# Altium footprint library QFP.PcbLib: 10 footprints
Each footprint in its own frame and in the unit in brackets; x right, y up, seen from the top. Pads: shape width x height; smd on the part's side, far side on the other; paste and mask are expansions set on the pad; w line width, h text height; cw(c..) or ccw(c..) is an arc to the next point about the centre after c.
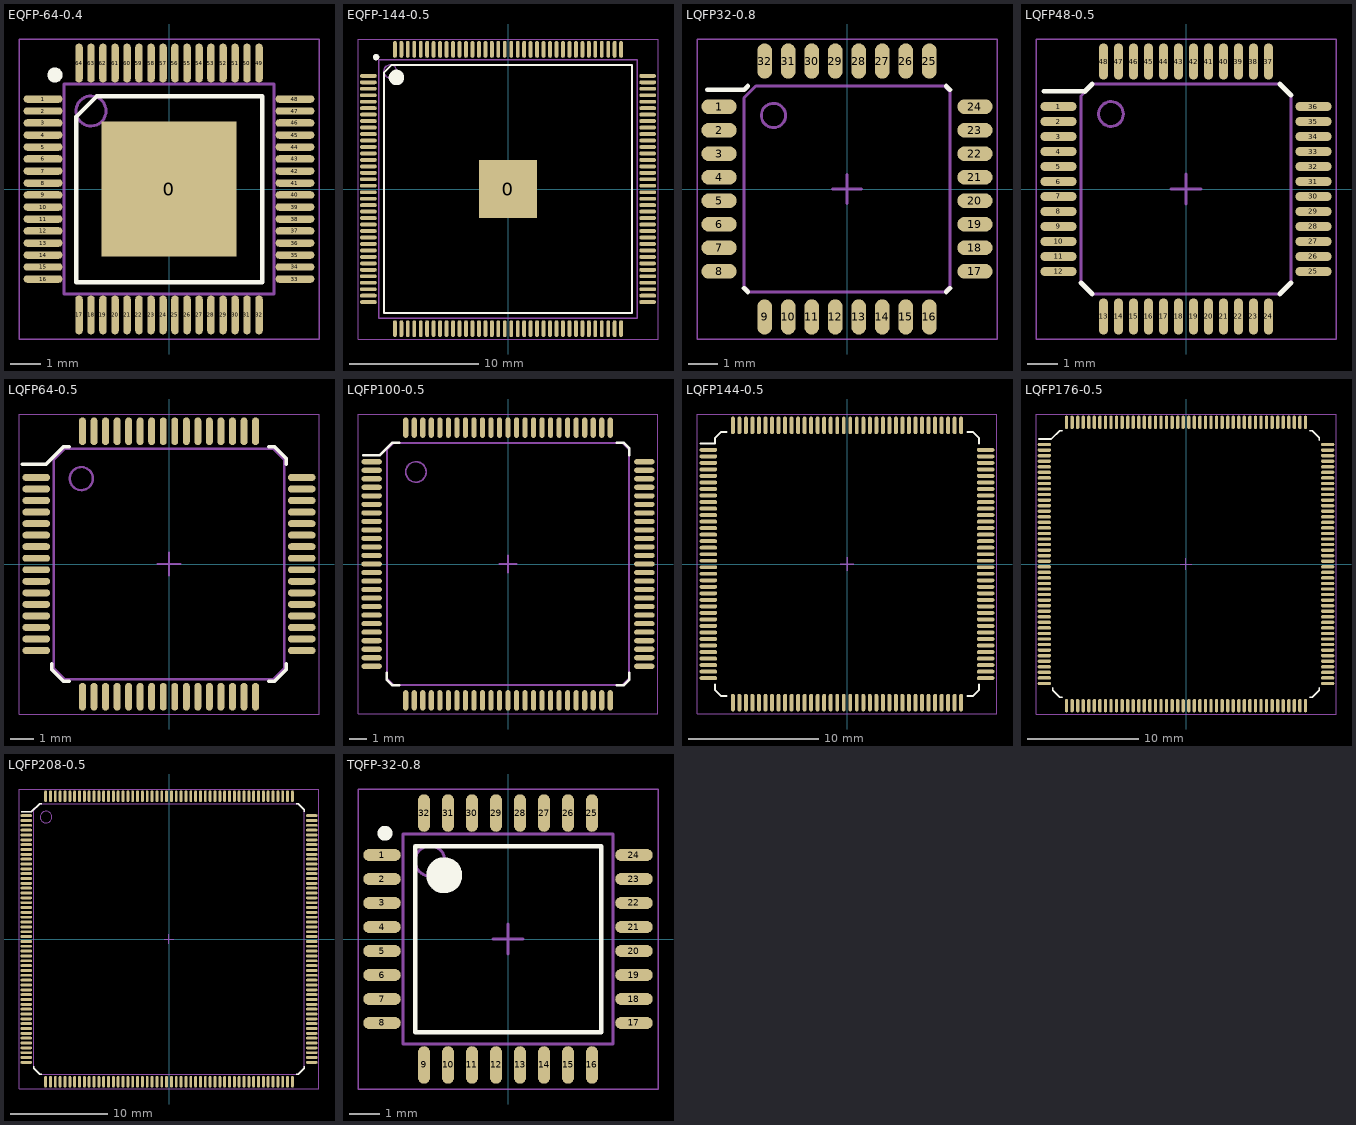
[diagram p0: the footprints below, top view; thin cyan lines are the x and y axes]

## EQFP-64-0.4 [mm] "64-Pin Plastic Enhanced Quad Flat (EQFP)"
height 1.2
pads (65):
  rect 4.5x4.5 smd: 0(0,0)
  oval 1.3x0.25 smd: 1(-4.2,3) 2(-4.2,2.6) 3(-4.2,2.2) 4(-4.2,1.8) 5(-4.2,1.4) 6(-4.2,1) 7(-4.2,0.6) 8(-4.2,0.2) 9(-4.2,-0.2) 10(-4.2,-0.6) 11(-4.2,-1) 12(-4.2,-1.4) 13(-4.2,-1.8) 14(-4.2,-2.2) 15(-4.2,-2.6) 16(-4.2,-3) 33(4.2,-3) 34(4.2,-2.6) 35(4.2,-2.2) 36(4.2,-1.8) 37(4.2,-1.4) 38(4.2,-1) 39(4.2,-0.6) 40(4.2,-0.2) 41(4.2,0.2) 42(4.2,0.6) 43(4.2,1) 44(4.2,1.4) 45(4.2,1.8) 46(4.2,2.2) 47(4.2,2.6) 48(4.2,3)
  oval 0.25x1.3 smd: 17(-3,-4.2) 18(-2.6,-4.2) 19(-2.2,-4.2) 20(-1.8,-4.2) 21(-1.4,-4.2) 22(-1,-4.2) 23(-0.6,-4.2) 24(-0.2,-4.2) 25(0.2,-4.2) 26(0.6,-4.2) 27(1,-4.2) 28(1.4,-4.2) 29(1.8,-4.2) 30(2.2,-4.2) 31(2.6,-4.2) 32(3,-4.2) 49(3,4.2) 50(2.6,4.2) 51(2.2,4.2) 52(1.8,4.2) 53(1.4,4.2) 54(1,4.2) 55(0.6,4.2) 56(0.2,4.2) 57(-0.2,4.2) 58(-0.6,4.2) 59(-1,4.2) 60(-1.4,4.2) 61(-1.8,4.2) 62(-2.2,4.2) 63(-2.6,4.2) 64(-3,4.2)
Top Overlay:
  circle w0.25: c-3.8,3.8 r0.125
  lines w0.15: -3.1,-3.1 3.1,-3.1 3.1,3.1 -2.4,3.1 -3.1,2.4 -3.1,-3.1
ASM Top:
  circle w0.1: c-2.6,2.6 r0.5
  lines w0.1: -3.5,-3.5 -3.5,3.5 3.5,3.5 3.5,-3.5 -3.5,-3.5
  text ".Designator" at -2.85,-0.3 h0.75
PNP Top:
  lines w0.05: -5,-5 -5,5 5,5 5,-5 -5,-5
  lines w0.1: -0.5,0 0.5,0 ; 0,-0.5 0,0.5
3D body "TSQFP40P900X900X120_HS-65L.step": height 1.2, standoff 0, extent -4.5,-4.5 4.5,4.5

## EQFP-144-0.5 [mm] "TSQFP, 144-Leads, Body 20,00x20,00mm, Pitch 0,50mm, Thermal Pad 4,50x4,50mm, IPC Medium Density"
height 1.6
pads (145):
  rect 4.5x4.5 smd: 0(0,0)
  oval 1.3x0.3 smd: 1(-10.8,8.75) 2(-10.8,8.25) 3(-10.8,7.75) 4(-10.8,7.25) 5(-10.8,6.75) 6(-10.8,6.25) 7(-10.8,5.75) 8(-10.8,5.25) 9(-10.8,4.75) 10(-10.8,4.25) 11(-10.8,3.75) 12(-10.8,3.25) 13(-10.8,2.75) 14(-10.8,2.25) 15(-10.8,1.75) 16(-10.8,1.25) 17(-10.8,0.75) 18(-10.8,0.25) 19(-10.8,-0.25) 20(-10.8,-0.75) 21(-10.8,-1.25) 22(-10.8,-1.75) 23(-10.8,-2.25) 24(-10.8,-2.75) 25(-10.8,-3.25) 26(-10.8,-3.75) 27(-10.8,-4.25) 28(-10.8,-4.75) 29(-10.8,-5.25) 30(-10.8,-5.75) 31(-10.8,-6.25) 32(-10.8,-6.75) 33(-10.8,-7.25) 34(-10.8,-7.75) 35(-10.8,-8.25) 36(-10.8,-8.75) 73(10.8,-8.75) 74(10.8,-8.25) 75(10.8,-7.75) 76(10.8,-7.25) 77(10.8,-6.75) 78(10.8,-6.25) 79(10.8,-5.75) 80(10.8,-5.25) 81(10.8,-4.75) 82(10.8,-4.25) 83(10.8,-3.75) 84(10.8,-3.25) 85(10.8,-2.75) 86(10.8,-2.25) 87(10.8,-1.75) 88(10.8,-1.25) 89(10.8,-0.75) 90(10.8,-0.25) 91(10.8,0.25) 92(10.8,0.75) 93(10.8,1.25) 94(10.8,1.75) 95(10.8,2.25) 96(10.8,2.75) 97(10.8,3.25) 98(10.8,3.75) 99(10.8,4.25) 100(10.8,4.75) 101(10.8,5.25) 102(10.8,5.75) 103(10.8,6.25) 104(10.8,6.75) 105(10.8,7.25) 106(10.8,7.75) 107(10.8,8.25) 108(10.8,8.75)
  oval 0.3x1.3 smd: 37(-8.75,-10.8) 38(-8.25,-10.8) 39(-7.75,-10.8) 40(-7.25,-10.8) 41(-6.75,-10.8) 42(-6.25,-10.8) 43(-5.75,-10.8) 44(-5.25,-10.8) 45(-4.75,-10.8) 46(-4.25,-10.8) 47(-3.75,-10.8) 48(-3.25,-10.8) 49(-2.75,-10.8) 50(-2.25,-10.8) 51(-1.75,-10.8) 52(-1.25,-10.8) 53(-0.75,-10.8) 54(-0.25,-10.8) 55(0.25,-10.8) 56(0.75,-10.8) 57(1.25,-10.8) 58(1.75,-10.8) 59(2.25,-10.8) 60(2.75,-10.8) 61(3.25,-10.8) 62(3.75,-10.8) 63(4.25,-10.8) 64(4.75,-10.8) 65(5.25,-10.8) 66(5.75,-10.8) 67(6.25,-10.8) 68(6.75,-10.8) 69(7.25,-10.8) 70(7.75,-10.8) 71(8.25,-10.8) 72(8.75,-10.8) 109(8.75,10.8) 110(8.25,10.8) 111(7.75,10.8) 112(7.25,10.8) 113(6.75,10.8) 114(6.25,10.8) 115(5.75,10.8) 116(5.25,10.8) 117(4.75,10.8) 118(4.25,10.8) 119(3.75,10.8) 120(3.25,10.8) 121(2.75,10.8) 122(2.25,10.8) 123(1.75,10.8) 124(1.25,10.8) 125(0.75,10.8) 126(0.25,10.8) 127(-0.25,10.8) 128(-0.75,10.8) 129(-1.25,10.8) 130(-1.75,10.8) 131(-2.25,10.8) 132(-2.75,10.8) 133(-3.25,10.8) 134(-3.75,10.8) 135(-4.25,10.8) 136(-4.75,10.8) 137(-5.25,10.8) 138(-5.75,10.8) 139(-6.25,10.8) 140(-6.75,10.8) 141(-7.25,10.8) 142(-7.75,10.8) 143(-8.25,10.8) 144(-8.75,10.8)
Top Overlay:
  circle w0.6: c-8.625,8.625 r0.3
  circle w0.25: c-10.2,10.2 r0.125
  lines w0.15: -9.6,-9.6 9.6,-9.6 9.6,9.6 -9,9.6 -9.6,9 -9.6,-9.6
ASM Top:
  circle w0.1: c-9.1,9.1 r0.5
  lines w0.1: -10,-10 10,-10 10,10 -10,10 -10,-10
  text ".Designator" at -6.55,-0.2 h0.75
PNP Top:
  lines w0.05: -11.6,-11.6 11.6,-11.6 11.6,11.6 -11.6,11.6 -11.6,-11.6
  lines w0.1: -0.5,0 0.5,0 ; 0,-0.5 0,0.5
3D body "TSQFP50P2200X2200X160_HS-145N.step": height 1.6, standoff 0, extent -11,-11 11,11

## LQFP32-0.8 [mm]
pads (32):
  oval 1.2x0.5 smd: 1(-4.35,2.8) 2(-4.35,2) 3(-4.35,1.2) 4(-4.35,0.4) 5(-4.35,-0.4) 6(-4.35,-1.2) 7(-4.35,-2) 8(-4.35,-2.8) 17(4.35,-2.8) 18(4.35,-2) 19(4.35,-1.2) 20(4.35,-0.4) 21(4.35,0.4) 22(4.35,1.2) 23(4.35,2) 24(4.35,2.8)
  oval 0.5x1.2 smd: 9(-2.8,-4.35) 10(-2,-4.35) 11(-1.2,-4.35) 12(-0.4,-4.35) 13(0.4,-4.35) 14(1.2,-4.35) 15(2,-4.35) 16(2.8,-4.35) 25(2.8,4.35) 26(2,4.35) 27(1.2,4.35) 28(0.4,4.35) 29(-0.4,4.35) 30(-1.2,4.35) 31(-2,4.35) 32(-2.8,4.35)
Top Overlay:
  lines w0.15: -4.75,3.375 -3.5,3.375
  lines w0.16: -3.5,-3.375 -3.375,-3.5 ; -3.5,3.375 -3.375,3.5 ; 3.375,-3.5 3.5,-3.375 ; 3.375,3.5 3.5,3.375
ASM Top:
  circle w0.1: c-2.5,2.5 r0.412
  lines w0.1: -3.5,-3.3 -3.5,3.1 -3.1,3.5 3.3,3.5 3.5,3.3 3.5,-3.3 3.3,-3.5 -3.3,-3.5 -3.5,-3.3
  text ".Designator" at -2.15,-0.2 h0.75
PNP Top:
  lines w0.05: -5.1,-5.1 -5.1,5.1 5.1,5.1 5.1,-5.1 -5.1,-5.1
  lines w0.1: -0.5,0 0.5,0 ; 0,-0.5 0,0.5
3D body "LQFP-32-0.8.STEP": height 1.62, standoff -0.01, extent -4.572,-4.572 4.572,4.572

## LQFP48-0.5 [mm]
pads (48):
  oval 1.2x0.3 smd: 1(-4.25,2.75) 2(-4.25,2.25) 3(-4.25,1.75) 4(-4.25,1.25) 5(-4.25,0.75) 6(-4.25,0.25) 7(-4.25,-0.25) 8(-4.25,-0.75) 9(-4.25,-1.25) 10(-4.25,-1.75) 11(-4.25,-2.25) 12(-4.25,-2.75) 25(4.25,-2.75) 26(4.25,-2.25) 27(4.25,-1.75) 28(4.25,-1.25) 29(4.25,-0.75) 30(4.25,-0.25) 31(4.25,0.25) 32(4.25,0.75) 33(4.25,1.25) 34(4.25,1.75) 35(4.25,2.25) 36(4.25,2.75)
  oval 0.3x1.2 smd: 13(-2.75,-4.25) 14(-2.25,-4.25) 15(-1.75,-4.25) 16(-1.25,-4.25) 17(-0.75,-4.25) 18(-0.25,-4.25) 19(0.25,-4.25) 20(0.75,-4.25) 21(1.25,-4.25) 22(1.75,-4.25) 23(2.25,-4.25) 24(2.75,-4.25) 37(2.75,4.25) 38(2.25,4.25) 39(1.75,4.25) 40(1.25,4.25) 41(0.75,4.25) 42(0.25,4.25) 43(-0.25,4.25) 44(-0.75,4.25) 45(-1.25,4.25) 46(-1.75,4.25) 47(-2.25,4.25) 48(-2.75,4.25)
Top Overlay:
  lines w0.15: -4.75,3.25 -3.375,3.25
  lines w0.16: -3.5,-3.125 -3.125,-3.5 ; -3.375,3.25 -3.125,3.5 ; 3.125,-3.5 3.5,-3.125 ; 3.125,3.5 3.5,3.125
ASM Top:
  circle w0.1: c-2.5,2.5 r0.412
  lines w0.1: -3.5,-3.1 -3.1,-3.5 3.1,-3.5 3.5,-3.1 3.5,3.1 3.1,3.5 -3.1,3.5 -3.5,3.1 -3.5,-3.1
  text ".Designator" at -3.65,0.1 h0.75
PNP Top:
  lines w0.05: -5,-5 -5,5 5,5 5,-5 -5,-5
  lines w0.1: -0.5,0 0.5,0 ; 0,-0.5 0,0.5
3D body "LQFP-48.step": height 1.5, standoff 0, extent -4.5,-4.5 4.5,4.5

## LQFP64-0.5 [mm]
pads (64):
  oval 1.2x0.3 smd: 1(-5.75,3.75) 2(-5.75,3.25) 3(-5.75,2.75) 4(-5.75,2.25) 5(-5.75,1.75) 6(-5.75,1.25) 7(-5.75,0.75) 8(-5.75,0.25) 9(-5.75,-0.25) 10(-5.75,-0.75) 11(-5.75,-1.25) 12(-5.75,-1.75) 13(-5.75,-2.25) 14(-5.75,-2.75) 15(-5.75,-3.25) 16(-5.75,-3.75) 33(5.75,-3.75) 34(5.75,-3.25) 35(5.75,-2.75) 36(5.75,-2.25) 37(5.75,-1.75) 38(5.75,-1.25) 39(5.75,-0.75) 40(5.75,-0.25) 41(5.75,0.25) 42(5.75,0.75) 43(5.75,1.25) 44(5.75,1.75) 45(5.75,2.25) 46(5.75,2.75) 47(5.75,3.25) 48(5.75,3.75)
  oval 0.3x1.2 smd: 17(-3.75,-5.75) 18(-3.25,-5.75) 19(-2.75,-5.75) 20(-2.25,-5.75) 21(-1.75,-5.75) 22(-1.25,-5.75) 23(-0.75,-5.75) 24(-0.25,-5.75) 25(0.25,-5.75) 26(0.75,-5.75) 27(1.25,-5.75) 28(1.75,-5.75) 29(2.25,-5.75) 30(2.75,-5.75) 31(3.25,-5.75) 32(3.75,-5.75) 49(3.75,5.75) 50(3.25,5.75) 51(2.75,5.75) 52(2.25,5.75) 53(1.75,5.75) 54(1.25,5.75) 55(0.75,5.75) 56(0.25,5.75) 57(-0.25,5.75) 58(-0.75,5.75) 59(-1.25,5.75) 60(-1.75,5.75) 61(-2.25,5.75) 62(-2.75,5.75) 63(-3.25,5.75) 64(-3.75,5.75)
Top Overlay:
  lines w0.16: -6.35,4.318 -5.334,4.318 -4.572,5.08 -4.318,5.08 ; -5.08,-4.318 -5.08,-4.572 -4.572,-5.08 -4.318,-5.08 ; 4.318,-5.08 4.572,-5.08 5.08,-4.572 5.08,-4.318 ; 4.318,5.08 4.572,5.08 5.08,4.572 5.08,4.318
ASM Top:
  circle w0.1: c-3.8,3.7 r0.5
  lines w0.1: -5,-4.5 -4.5,-5 4.5,-5 5,-4.5 5,4.5 4.5,5 -4.5,5 -5,4.5 -5,-4.5
  text ".Designator" at -3.45,-0.3 h0.75
PNP Top:
  lines w0.05: -6.5,-6.5 6.5,-6.5 6.5,6.5 -6.5,6.5 -6.5,-6.5
  lines w0.1: -0.5,0 0.5,0 ; 0,-0.5 0,0.5
3D body "LQFP-64.STEP": height 1.6, standoff 0, extent -6,-6 6,6

## LQFP100-0.5 [mm]
pads (100):
  oval 1.2x0.3 smd: 1(-8,6) 2(-8,5.5) 3(-8,5) 4(-8,4.5) 5(-8,4) 6(-8,3.5) 7(-8,3) 8(-8,2.5) 9(-8,2) 10(-8,1.5) 11(-8,1) 12(-8,0.5) 13(-8,0) 14(-8,-0.5) 15(-8,-1) 16(-8,-1.5) 17(-8,-2) 18(-8,-2.5) 19(-8,-3) 20(-8,-3.5) 21(-8,-4) 22(-8,-4.5) 23(-8,-5) 24(-8,-5.5) 25(-8,-6) 51(8,-6) 52(8,-5.5) 53(8,-5) 54(8,-4.5) 55(8,-4) 56(8,-3.5) 57(8,-3) 58(8,-2.5) 59(8,-2) 60(8,-1.5) 61(8,-1) 62(8,-0.5) 63(8,0) 64(8,0.5) 65(8,1) 66(8,1.5) 67(8,2) 68(8,2.5) 69(8,3) 70(8,3.5) 71(8,4) 72(8,4.5) 73(8,5) 74(8,5.5) 75(8,6)
  oval 0.3x1.2 smd: 26(-6,-8) 27(-5.5,-8) 28(-5,-8) 29(-4.5,-8) 30(-4,-8) 31(-3.5,-8) 32(-3,-8) 33(-2.5,-8) 34(-2,-8) 35(-1.5,-8) 36(-1,-8) 37(-0.5,-8) 38(0,-8) 39(0.5,-8) 40(1,-8) 41(1.5,-8) 42(2,-8) 43(2.5,-8) 44(3,-8) 45(3.5,-8) 46(4,-8) 47(4.5,-8) 48(5,-8) 49(5.5,-8) 50(6,-8) 76(6,8) 77(5.5,8) 78(5,8) 79(4.5,8) 80(4,8) 81(3.5,8) 82(3,8) 83(2.5,8) 84(2,8) 85(1.5,8) 86(1,8) 87(0.5,8) 88(0,8) 89(-0.5,8) 90(-1,8) 91(-1.5,8) 92(-2,8) 93(-2.5,8) 94(-3,8) 95(-3.5,8) 96(-4,8) 97(-4.5,8) 98(-5,8) 99(-5.5,8) 100(-6,8)
Top Overlay:
  lines w0.15: -8.5,6.375 -7.527,6.375 -6.777,7.125 -6.375,7.125 ; -7.125,-6.375 -7.125,-6.777 -6.777,-7.125 -6.375,-7.125 ; 6.375,-7.125 6.777,-7.125 7.125,-6.777 7.125,-6.375 ; 6.375,7.125 6.777,7.125 7.125,6.777 7.125,6.375
ASM Top:
  circle w0.1: c-5.4,5.4 r0.6
  lines w0.1: -7.1,-6.7 -6.7,-7.1 6.7,-7.1 7.1,-6.7 7.1,6.7 6.7,7.1 -6.7,7.1 -7.1,6.7 -7.1,-6.7
  text ".Designator" at -4.35,-0.1 h0.75
PNP Top:
  lines w0.05: -8.8,-8.8 -8.8,8.8 8.8,8.8 8.8,-8.8 -8.8,-8.8
  lines w0.1: -0.5,0 0.5,0 ; 0,-0.5 0,0.5
3D body "LQFP-100.step": height 1.6, standoff 0, extent -8,-8 8,8

## LQFP144-0.5 [mm]
pads (144):
  oval 1.35x0.3 smd: 1(-10.625,8.75) 2(-10.625,8.25) 3(-10.625,7.75) 4(-10.625,7.25) 5(-10.625,6.75) 6(-10.625,6.25) 7(-10.625,5.75) 8(-10.625,5.25) 9(-10.625,4.75) 10(-10.625,4.25) 11(-10.625,3.75) 12(-10.625,3.25) 13(-10.625,2.75) 14(-10.625,2.25) 15(-10.625,1.75) 16(-10.625,1.25) 17(-10.625,0.75) 18(-10.625,0.25) 19(-10.625,-0.25) 20(-10.625,-0.75) 21(-10.625,-1.25) 22(-10.625,-1.75) 23(-10.625,-2.25) 24(-10.625,-2.75) 25(-10.625,-3.25) 26(-10.625,-3.75) 27(-10.625,-4.25) 28(-10.625,-4.75) 29(-10.625,-5.25) 30(-10.625,-5.75) 31(-10.625,-6.25) 32(-10.625,-6.75) 33(-10.625,-7.25) 34(-10.625,-7.75) 35(-10.625,-8.25) 36(-10.625,-8.75) 73(10.625,-8.75) 74(10.625,-8.25) 75(10.625,-7.75) 76(10.625,-7.25) 77(10.625,-6.75) 78(10.625,-6.25) 79(10.625,-5.75) 80(10.625,-5.25) 81(10.625,-4.75) 82(10.625,-4.25) 83(10.625,-3.75) 84(10.625,-3.25) 85(10.625,-2.75) 86(10.625,-2.25) 87(10.625,-1.75) 88(10.625,-1.25) 89(10.625,-0.75) 90(10.625,-0.25) 91(10.625,0.25) 92(10.625,0.75) 93(10.625,1.25) 94(10.625,1.75) 95(10.625,2.25) 96(10.625,2.75) 97(10.625,3.25) 98(10.625,3.75) 99(10.625,4.25) 100(10.625,4.75) 101(10.625,5.25) 102(10.625,5.75) 103(10.625,6.25) 104(10.625,6.75) 105(10.625,7.25) 106(10.625,7.75) 107(10.625,8.25) 108(10.625,8.75)
  oval 0.3x1.35 smd: 37(-8.75,-10.625) 38(-8.25,-10.625) 39(-7.75,-10.625) 40(-7.25,-10.625) 41(-6.75,-10.625) 42(-6.25,-10.625) 43(-5.75,-10.625) 44(-5.25,-10.625) 45(-4.75,-10.625) 46(-4.25,-10.625) 47(-3.75,-10.625) 48(-3.25,-10.625) 49(-2.75,-10.625) 50(-2.25,-10.625) 51(-1.75,-10.625) 52(-1.25,-10.625) 53(-0.75,-10.625) 54(-0.25,-10.625) 55(0.25,-10.625) 56(0.75,-10.625) 57(1.25,-10.625) 58(1.75,-10.625) 59(2.25,-10.625) 60(2.75,-10.625) 61(3.25,-10.625) 62(3.75,-10.625) 63(4.25,-10.625) 64(4.75,-10.625) 65(5.25,-10.625) 66(5.75,-10.625) 67(6.25,-10.625) 68(6.75,-10.625) 69(7.25,-10.625) 70(7.75,-10.625) 71(8.25,-10.625) 72(8.75,-10.625) 109(8.75,10.625) 110(8.25,10.625) 111(7.75,10.625) 112(7.25,10.625) 113(6.75,10.625) 114(6.25,10.625) 115(5.75,10.625) 116(5.25,10.625) 117(4.75,10.625) 118(4.25,10.625) 119(3.75,10.625) 120(3.25,10.625) 121(2.75,10.625) 122(2.25,10.625) 123(1.75,10.625) 124(1.25,10.625) 125(0.75,10.625) 126(0.25,10.625) 127(-0.25,10.625) 128(-0.75,10.625) 129(-1.25,10.625) 130(-1.75,10.625) 131(-2.25,10.625) 132(-2.75,10.625) 133(-3.25,10.625) 134(-3.75,10.625) 135(-4.25,10.625) 136(-4.75,10.625) 137(-5.25,10.625) 138(-5.75,10.625) 139(-6.25,10.625) 140(-6.75,10.625) 141(-7.25,10.625) 142(-7.75,10.625) 143(-8.25,10.625) 144(-8.75,10.625)
Top Overlay:
  lines w0.15: -11.25,9.25 -10.125,9.25 -10.125,9.625 -9.625,10.125 -9.25,10.125 ; -10.125,-9.25 -10.125,-9.625 -9.625,-10.125 -9.25,-10.125 ; 9.25,-10.125 9.625,-10.125 10.125,-9.625 10.125,-9.25 ; 9.25,10.125 9.625,10.125 10.125,9.625 10.125,9.25
ASM Top:
  text ".Designator" at -4.45,-0.2 h0.75
PNP Top:
  lines w0.05: -11.5,-11.5 11.5,-11.5 11.5,11.5 -11.5,11.5 -11.5,-11.5
  lines w0.1: -0.5,0 0.5,0 ; 0,-0.5 0,0.5
3D body "LQFP-144.step": height 1.58, standoff -0.02, extent -11,-11 11,11

## LQFP176-0.5 [mm]
pads (176):
  oval 1.2x0.3 smd: 1(-12.75,10.75) 2(-12.75,10.25) 3(-12.75,9.75) 4(-12.75,9.25) 5(-12.75,8.75) 6(-12.75,8.25) 7(-12.75,7.75) 8(-12.75,7.25) 9(-12.75,6.75) 10(-12.75,6.25) 11(-12.75,5.75) 12(-12.75,5.25) 13(-12.75,4.75) 14(-12.75,4.25) 15(-12.75,3.75) 16(-12.75,3.25) 17(-12.75,2.75) 18(-12.75,2.25) 19(-12.75,1.75) 20(-12.75,1.25) 21(-12.75,0.75) 22(-12.75,0.25) 23(-12.75,-0.25) 24(-12.75,-0.75) 25(-12.75,-1.25) 26(-12.75,-1.75) 27(-12.75,-2.25) 28(-12.75,-2.75) 29(-12.75,-3.25) 30(-12.75,-3.75) 31(-12.75,-4.25) 32(-12.75,-4.75) 33(-12.75,-5.25) 34(-12.75,-5.75) 35(-12.75,-6.25) 36(-12.75,-6.75) 37(-12.75,-7.25) 38(-12.75,-7.75) 39(-12.75,-8.25) 40(-12.75,-8.75) 41(-12.75,-9.25) 42(-12.75,-9.75) 43(-12.75,-10.25) 44(-12.75,-10.75) 89(12.75,-10.75) 90(12.75,-10.25) 91(12.75,-9.75) 92(12.75,-9.25) 93(12.75,-8.75) 94(12.75,-8.25) 95(12.75,-7.75) 96(12.75,-7.25) 97(12.75,-6.75) 98(12.75,-6.25) 99(12.75,-5.75) 100(12.75,-5.25) 101(12.75,-4.75) 102(12.75,-4.25) 103(12.75,-3.75) 104(12.75,-3.25) 105(12.75,-2.75) 106(12.75,-2.25) 107(12.75,-1.75) 108(12.75,-1.25) 109(12.75,-0.75) 110(12.75,-0.25) 111(12.75,0.25) 112(12.75,0.75) 113(12.75,1.25) 114(12.75,1.75) 115(12.75,2.25) 116(12.75,2.75) 117(12.75,3.25) 118(12.75,3.75) 119(12.75,4.25) 120(12.75,4.75) 121(12.75,5.25) 122(12.75,5.75) 123(12.75,6.25) 124(12.75,6.75) 125(12.75,7.25) 126(12.75,7.75) 127(12.75,8.25) 128(12.75,8.75) 129(12.75,9.25) 130(12.75,9.75) 131(12.75,10.25) 132(12.75,10.75)
  oval 0.3x1.2 smd: 45(-10.75,-12.75) 46(-10.25,-12.75) 47(-9.75,-12.75) 48(-9.25,-12.75) 49(-8.75,-12.75) 50(-8.25,-12.75) 51(-7.75,-12.75) 52(-7.25,-12.75) 53(-6.75,-12.75) 54(-6.25,-12.75) 55(-5.75,-12.75) 56(-5.25,-12.75) 57(-4.75,-12.75) 58(-4.25,-12.75) 59(-3.75,-12.75) 60(-3.25,-12.75) 61(-2.75,-12.75) 62(-2.25,-12.75) 63(-1.75,-12.75) 64(-1.25,-12.75) 65(-0.75,-12.75) 66(-0.25,-12.75) 67(0.25,-12.75) 68(0.75,-12.75) 69(1.25,-12.75) 70(1.75,-12.75) 71(2.25,-12.75) 72(2.75,-12.75) 73(3.25,-12.75) 74(3.75,-12.75) 75(4.25,-12.75) 76(4.75,-12.75) 77(5.25,-12.75) 78(5.75,-12.75) 79(6.25,-12.75) 80(6.75,-12.75) 81(7.25,-12.75) 82(7.75,-12.75) 83(8.25,-12.75) 84(8.75,-12.75) 85(9.25,-12.75) 86(9.75,-12.75) 87(10.25,-12.75) 88(10.75,-12.75) 133(10.75,12.75) 134(10.25,12.75) 135(9.75,12.75) 136(9.25,12.75) 137(8.75,12.75) 138(8.25,12.75) 139(7.75,12.75) 140(7.25,12.75) 141(6.75,12.75) 142(6.25,12.75) 143(5.75,12.75) 144(5.25,12.75) 145(4.75,12.75) 146(4.25,12.75) 147(3.75,12.75) 148(3.25,12.75) 149(2.75,12.75) 150(2.25,12.75) 151(1.75,12.75) 152(1.25,12.75) 153(0.75,12.75) 154(0.25,12.75) 155(-0.25,12.75) 156(-0.75,12.75) 157(-1.25,12.75) 158(-1.75,12.75) 159(-2.25,12.75) 160(-2.75,12.75) 161(-3.25,12.75) 162(-3.75,12.75) 163(-4.25,12.75) 164(-4.75,12.75) 165(-5.25,12.75) 166(-5.75,12.75) 167(-6.25,12.75) 168(-6.75,12.75) 169(-7.25,12.75) 170(-7.75,12.75) 171(-8.25,12.75) 172(-8.75,12.75) 173(-9.25,12.75) 174(-9.75,12.75) 175(-10.25,12.75) 176(-10.75,12.75)
Top Overlay:
  lines w0.15: -13.25,11.25 -12.125,11.25 -11.375,12 -11.125,12 ; -12,-11.125 -12,-11.375 -11.375,-12 -11.125,-12 ; 11.125,-12 11.375,-12 12,-11.375 12,-11.125 ; 11.125,12 11.375,12 12,11.375 12,11.125
ASM Top:
  text ".Designator" at -4.05,-0.7 h0.75
PNP Top:
  lines w0.05: -13.5,-13.5 13.5,-13.5 13.5,13.5 -13.5,13.5 -13.5,-13.5
  lines w0.1: -0.5,0 0.5,0 ; 0,-0.5 0,0.5
3D body "LQFP-176.step": height 1.55, standoff -0.02, extent -12.886,-12.886 12.886,12.886

## LQFP208-0.5 [mm]
pads (208):
  oval 1.2x0.3 smd: 1(-14.75,12.75) 2(-14.75,12.25) 3(-14.75,11.75) 4(-14.75,11.25) 5(-14.75,10.75) 6(-14.75,10.25) 7(-14.75,9.75) 8(-14.75,9.25) 9(-14.75,8.75) 10(-14.75,8.25) 11(-14.75,7.75) 12(-14.75,7.25) 13(-14.75,6.75) 14(-14.75,6.25) 15(-14.75,5.75) 16(-14.75,5.25) 17(-14.75,4.75) 18(-14.75,4.25) 19(-14.75,3.75) 20(-14.75,3.25) 21(-14.75,2.75) 22(-14.75,2.25) 23(-14.75,1.75) 24(-14.75,1.25) 25(-14.75,0.75) 26(-14.75,0.25) 27(-14.75,-0.25) 28(-14.75,-0.75) 29(-14.75,-1.25) 30(-14.75,-1.75) 31(-14.75,-2.25) 32(-14.75,-2.75) 33(-14.75,-3.25) 34(-14.75,-3.75) 35(-14.75,-4.25) 36(-14.75,-4.75) 37(-14.75,-5.25) 38(-14.75,-5.75) 39(-14.75,-6.25) 40(-14.75,-6.75) 41(-14.75,-7.25) 42(-14.75,-7.75) 43(-14.75,-8.25) 44(-14.75,-8.75) 45(-14.75,-9.25) 46(-14.75,-9.75) 47(-14.75,-10.25) 48(-14.75,-10.75) 49(-14.75,-11.25) 50(-14.75,-11.75) 51(-14.75,-12.25) 52(-14.75,-12.75) 105(14.75,-12.75) 106(14.75,-12.25) 107(14.75,-11.75) 108(14.75,-11.25) 109(14.75,-10.75) 110(14.75,-10.25) 111(14.75,-9.75) 112(14.75,-9.25) 113(14.75,-8.75) 114(14.75,-8.25) 115(14.75,-7.75) 116(14.75,-7.25) 117(14.75,-6.75) 118(14.75,-6.25) 119(14.75,-5.75) 120(14.75,-5.25) 121(14.75,-4.75) 122(14.75,-4.25) 123(14.75,-3.75) 124(14.75,-3.25) 125(14.75,-2.75) 126(14.75,-2.25) 127(14.75,-1.75) 128(14.75,-1.25) 129(14.75,-0.75) 130(14.75,-0.25) 131(14.75,0.25) 132(14.75,0.75) 133(14.75,1.25) 134(14.75,1.75) 135(14.75,2.25) 136(14.75,2.75) 137(14.75,3.25) 138(14.75,3.75) 139(14.75,4.25) 140(14.75,4.75) 141(14.75,5.25) 142(14.75,5.75) 143(14.75,6.25) 144(14.75,6.75) 145(14.75,7.25) 146(14.75,7.75) 147(14.75,8.25) 148(14.75,8.75) 149(14.75,9.25) 150(14.75,9.75) 151(14.75,10.25) 152(14.75,10.75) 153(14.75,11.25) 154(14.75,11.75) 155(14.75,12.25) 156(14.75,12.75)
  oval 0.3x1.2 smd: 53(-12.75,-14.75) 54(-12.25,-14.75) 55(-11.75,-14.75) 56(-11.25,-14.75) 57(-10.75,-14.75) 58(-10.25,-14.75) 59(-9.75,-14.75) 60(-9.25,-14.75) 61(-8.75,-14.75) 62(-8.25,-14.75) 63(-7.75,-14.75) 64(-7.25,-14.75) 65(-6.75,-14.75) 66(-6.25,-14.75) 67(-5.75,-14.75) 68(-5.25,-14.75) 69(-4.75,-14.75) 70(-4.25,-14.75) 71(-3.75,-14.75) 72(-3.25,-14.75) 73(-2.75,-14.75) 74(-2.25,-14.75) 75(-1.75,-14.75) 76(-1.25,-14.75) 77(-0.75,-14.75) 78(-0.25,-14.75) 79(0.25,-14.75) 80(0.75,-14.75) 81(1.25,-14.75) 82(1.75,-14.75) 83(2.25,-14.75) 84(2.75,-14.75) 85(3.25,-14.75) 86(3.75,-14.75) 87(4.25,-14.75) 88(4.75,-14.75) 89(5.25,-14.75) 90(5.75,-14.75) 91(6.25,-14.75) 92(6.75,-14.75) 93(7.25,-14.75) 94(7.75,-14.75) 95(8.25,-14.75) 96(8.75,-14.75) 97(9.25,-14.75) 98(9.75,-14.75) 99(10.25,-14.75) 100(10.75,-14.75) 101(11.25,-14.75) 102(11.75,-14.75) 103(12.25,-14.75) 104(12.75,-14.75) 157(12.75,14.75) 158(12.25,14.75) 159(11.75,14.75) 160(11.25,14.75) 161(10.75,14.75) 162(10.25,14.75) 163(9.75,14.75) 164(9.25,14.75) 165(8.75,14.75) 166(8.25,14.75) 167(7.75,14.75) 168(7.25,14.75) 169(6.75,14.75) 170(6.25,14.75) 171(5.75,14.75) 172(5.25,14.75) 173(4.75,14.75) 174(4.25,14.75) 175(3.75,14.75) 176(3.25,14.75) 177(2.75,14.75) 178(2.25,14.75) 179(1.75,14.75) 180(1.25,14.75) 181(0.75,14.75) 182(0.25,14.75) 183(-0.25,14.75) 184(-0.75,14.75) 185(-1.25,14.75) 186(-1.75,14.75) 187(-2.25,14.75) 188(-2.75,14.75) 189(-3.25,14.75) 190(-3.75,14.75) 191(-4.25,14.75) 192(-4.75,14.75) 193(-5.25,14.75) 194(-5.75,14.75) 195(-6.25,14.75) 196(-6.75,14.75) 197(-7.25,14.75) 198(-7.75,14.75) 199(-8.25,14.75) 200(-8.75,14.75) 201(-9.25,14.75) 202(-9.75,14.75) 203(-10.25,14.75) 204(-10.75,14.75) 205(-11.25,14.75) 206(-11.75,14.75) 207(-12.25,14.75) 208(-12.75,14.75)
Top Overlay:
  lines w0.15: -15.25,13.125 -14.25,13.125 -13.375,14 -13.125,14 ; -14,-13.125 -14,-13.375 -13.375,-14 -13.125,-14 ; 13.125,-14 13.375,-14 14,-13.375 14,-13.125 ; 13.125,14 13.375,14 14,13.375 14,13.125
ASM Top:
  circle w0.1: c-12.7,12.6 r0.6
  lines w0.1: -14,-13.3 -14,13.3 -13.3,14 13.3,14 14,13.3 14,-13.3 13.3,-14 -13.3,-14 -14,-13.3
  text ".Designator" at -4.75,-2.4 h0.75
PNP Top:
  lines w0.05: -15.5,-15.5 15.5,-15.5 15.5,15.5 -15.5,15.5 -15.5,-15.5
  lines w0.1: -0.5,0 0.5,0 ; 0,-0.5 0,0.5
3D body: height 0.3, standoff 0, extent -12.875,-14.875 -12.625,-13.875
3D body: height 1.6, standoff 0.2, extent -14,-14 14,14
3D body: height 0.3, standoff 0, extent -12.375,-14.875 -12.125,-13.875
3D body: height 0.3, standoff 0, extent -11.375,-14.875 -11.125,-13.875
3D body: height 0.3, standoff 0, extent -11.875,-14.875 -11.625,-13.875
3D body: height 0.3, standoff 0, extent -9.875,-14.875 -9.625,-13.875
3D body: height 0.3, standoff 0, extent -9.375,-14.875 -9.125,-13.875
3D body: height 0.3, standoff 0, extent -10.375,-14.875 -10.125,-13.875
3D body: height 0.3, standoff 0, extent -10.875,-14.875 -10.625,-13.875
3D body: height 0.3, standoff 0, extent -6.875,-14.875 -6.625,-13.875
3D body: height 0.3, standoff 0, extent -6.375,-14.875 -6.125,-13.875
3D body: height 0.3, standoff 0, extent -5.375,-14.875 -5.125,-13.875
3D body: height 0.3, standoff 0, extent -5.875,-14.875 -5.625,-13.875
3D body: height 0.3, standoff 0, extent -7.875,-14.875 -7.625,-13.875
3D body: height 0.3, standoff 0, extent -7.375,-14.875 -7.125,-13.875
3D body: height 0.3, standoff 0, extent -8.375,-14.875 -8.125,-13.875
3D body: height 0.3, standoff 0, extent -8.875,-14.875 -8.625,-13.875
3D body: height 0.3, standoff 0, extent -0.875,-14.875 -0.625,-13.875
3D body: height 0.3, standoff 0, extent -0.375,-14.875 -0.125,-13.875
3D body: height 0.3, standoff 0, extent 0.625,-14.875 0.875,-13.875
3D body: height 0.3, standoff 0, extent 0.125,-14.875 0.375,-13.875
3D body: height 0.3, standoff 0, extent 2.125,-14.875 2.375,-13.875
3D body: height 0.3, standoff 0, extent 2.625,-14.875 2.875,-13.875
3D body: height 0.3, standoff 0, extent 1.625,-14.875 1.875,-13.875
3D body: height 0.3, standoff 0, extent 1.125,-14.875 1.375,-13.875
3D body: height 0.3, standoff 0, extent -2.875,-14.875 -2.625,-13.875
3D body: height 0.3, standoff 0, extent -2.375,-14.875 -2.125,-13.875
3D body: height 0.3, standoff 0, extent -1.375,-14.875 -1.125,-13.875
3D body: height 0.3, standoff 0, extent -1.875,-14.875 -1.625,-13.875
3D body: height 0.3, standoff 0, extent -3.875,-14.875 -3.625,-13.875
3D body: height 0.3, standoff 0, extent -3.375,-14.875 -3.125,-13.875
3D body: height 0.3, standoff 0, extent -4.375,-14.875 -4.125,-13.875
3D body: height 0.3, standoff 0, extent -4.875,-14.875 -4.625,-13.875
3D body: height 0.3, standoff 0, extent 7.125,-14.875 7.375,-13.875
3D body: height 0.3, standoff 0, extent 7.625,-14.875 7.875,-13.875
3D body: height 0.3, standoff 0, extent 8.625,-14.875 8.875,-13.875
3D body: height 0.3, standoff 0, extent 8.125,-14.875 8.375,-13.875
3D body: height 0.3, standoff 0, extent 10.125,-14.875 10.375,-13.875
3D body: height 0.3, standoff 0, extent 10.625,-14.875 10.875,-13.875
3D body: height 0.3, standoff 0, extent 9.625,-14.875 9.875,-13.875
3D body: height 0.3, standoff 0, extent 9.125,-14.875 9.375,-13.875
3D body: height 0.3, standoff 0, extent 5.125,-14.875 5.375,-13.875
3D body: height 0.3, standoff 0, extent 5.625,-14.875 5.875,-13.875
3D body: height 0.3, standoff 0, extent 6.625,-14.875 6.875,-13.875
3D body: height 0.3, standoff 0, extent 6.125,-14.875 6.375,-13.875
3D body: height 0.3, standoff 0, extent 4.125,-14.875 4.375,-13.875
3D body: height 0.3, standoff 0, extent 4.625,-14.875 4.875,-13.875
3D body: height 0.3, standoff 0, extent 3.625,-14.875 3.875,-13.875
3D body: height 0.3, standoff 0, extent 3.125,-14.875 3.375,-13.875
3D body: height 0.3, standoff 0, extent 12.125,-14.875 12.375,-13.875
3D body: height 0.3, standoff 0, extent 12.625,-14.875 12.875,-13.875
3D body: height 0.3, standoff 0, extent 11.625,-14.875 11.875,-13.875
3D body: height 0.3, standoff 0, extent 11.125,-14.875 11.375,-13.875
3D body: height 0.3, standoff 0, extent 13.875,11.125 14.875,11.375
3D body: height 0.3, standoff 0, extent 13.875,11.625 14.875,11.875
3D body: height 0.3, standoff 0, extent 13.875,12.625 14.875,12.875
3D body: height 0.3, standoff 0, extent 13.875,12.125 14.875,12.375
3D body: height 0.3, standoff 0, extent 13.875,3.125 14.875,3.375
3D body: height 0.3, standoff 0, extent 13.875,3.625 14.875,3.875
3D body: height 0.3, standoff 0, extent 13.875,4.625 14.875,4.875
3D body: height 0.3, standoff 0, extent 13.875,4.125 14.875,4.375
3D body: height 0.3, standoff 0, extent 13.875,6.125 14.875,6.375
3D body: height 0.3, standoff 0, extent 13.875,6.625 14.875,6.875
3D body: height 0.3, standoff 0, extent 13.875,5.625 14.875,5.875
3D body: height 0.3, standoff 0, extent 13.875,5.125 14.875,5.375
3D body: height 0.3, standoff 0, extent 13.875,9.125 14.875,9.375
3D body: height 0.3, standoff 0, extent 13.875,9.625 14.875,9.875
3D body: height 0.3, standoff 0, extent 13.875,10.625 14.875,10.875
3D body: height 0.3, standoff 0, extent 13.875,10.125 14.875,10.375
3D body: height 0.3, standoff 0, extent 13.875,8.125 14.875,8.375
3D body: height 0.3, standoff 0, extent 13.875,8.625 14.875,8.875
3D body: height 0.3, standoff 0, extent 13.875,7.625 14.875,7.875
3D body: height 0.3, standoff 0, extent 13.875,7.125 14.875,7.375
3D body: height 0.3, standoff 0, extent 13.875,-4.875 14.875,-4.625
3D body: height 0.3, standoff 0, extent 13.875,-4.375 14.875,-4.125
3D body: height 0.3, standoff 0, extent 13.875,-3.375 14.875,-3.125
3D body: height 0.3, standoff 0, extent 13.875,-3.875 14.875,-3.625
3D body: height 0.3, standoff 0, extent 13.875,-1.875 14.875,-1.625
3D body: height 0.3, standoff 0, extent 13.875,-1.375 14.875,-1.125
3D body: height 0.3, standoff 0, extent 13.875,-2.375 14.875,-2.125
3D body: height 0.3, standoff 0, extent 13.875,-2.875 14.875,-2.625
3D body: height 0.3, standoff 0, extent 13.875,1.125 14.875,1.375
3D body: height 0.3, standoff 0, extent 13.875,1.625 14.875,1.875
3D body: height 0.3, standoff 0, extent 13.875,2.625 14.875,2.875
3D body: height 0.3, standoff 0, extent 13.875,2.125 14.875,2.375
3D body: height 0.3, standoff 0, extent 13.875,0.125 14.875,0.375
3D body: height 0.3, standoff 0, extent 13.875,0.625 14.875,0.875
3D body: height 0.3, standoff 0, extent 13.875,-0.375 14.875,-0.125
3D body: height 0.3, standoff 0, extent 13.875,-0.875 14.875,-0.625
3D body: height 0.3, standoff 0, extent 13.875,-8.875 14.875,-8.625
3D body: height 0.3, standoff 0, extent 13.875,-8.375 14.875,-8.125
3D body: height 0.3, standoff 0, extent 13.875,-7.375 14.875,-7.125
3D body: height 0.3, standoff 0, extent 13.875,-7.875 14.875,-7.625
3D body: height 0.3, standoff 0, extent 13.875,-5.875 14.875,-5.625
3D body: height 0.3, standoff 0, extent 13.875,-5.375 14.875,-5.125
3D body: height 0.3, standoff 0, extent 13.875,-6.375 14.875,-6.125
3D body: height 0.3, standoff 0, extent 13.875,-6.875 14.875,-6.625
3D body: height 0.3, standoff 0, extent 13.875,-10.875 14.875,-10.625
3D body: height 0.3, standoff 0, extent 13.875,-10.375 14.875,-10.125
3D body: height 0.3, standoff 0, extent 13.875,-9.375 14.875,-9.125
3D body: height 0.3, standoff 0, extent 13.875,-9.875 14.875,-9.625
3D body: height 0.3, standoff 0, extent 13.875,-11.875 14.875,-11.625
3D body: height 0.3, standoff 0, extent 13.875,-11.375 14.875,-11.125
3D body: height 0.3, standoff 0, extent 13.875,-12.375 14.875,-12.125
3D body: height 0.3, standoff 0, extent 13.875,-12.875 14.875,-12.625
3D body: height 0.3, standoff 0, extent -11.375,13.875 -11.125,14.875
3D body: height 0.3, standoff 0, extent -11.875,13.875 -11.625,14.875
3D body: height 0.3, standoff 0, extent -12.875,13.875 -12.625,14.875
3D body: height 0.3, standoff 0, extent -12.375,13.875 -12.125,14.875
3D body: height 0.3, standoff 0, extent -3.375,13.875 -3.125,14.875
3D body: height 0.3, standoff 0, extent -3.875,13.875 -3.625,14.875
3D body: height 0.3, standoff 0, extent -4.875,13.875 -4.625,14.875
3D body: height 0.3, standoff 0, extent -4.375,13.875 -4.125,14.875
3D body: height 0.3, standoff 0, extent -6.375,13.875 -6.125,14.875
3D body: height 0.3, standoff 0, extent -6.875,13.875 -6.625,14.875
3D body: height 0.3, standoff 0, extent -5.875,13.875 -5.625,14.875
3D body: height 0.3, standoff 0, extent -5.375,13.875 -5.125,14.875
3D body: height 0.3, standoff 0, extent -9.375,13.875 -9.125,14.875
3D body: height 0.3, standoff 0, extent -9.875,13.875 -9.625,14.875
3D body: height 0.3, standoff 0, extent -10.875,13.875 -10.625,14.875
3D body: height 0.3, standoff 0, extent -10.375,13.875 -10.125,14.875
3D body: height 0.3, standoff 0, extent -8.375,13.875 -8.125,14.875
3D body: height 0.3, standoff 0, extent -8.875,13.875 -8.625,14.875
3D body: height 0.3, standoff 0, extent -7.875,13.875 -7.625,14.875
3D body: height 0.3, standoff 0, extent -7.375,13.875 -7.125,14.875
3D body: height 0.3, standoff 0, extent 4.625,13.875 4.875,14.875
3D body: height 0.3, standoff 0, extent 4.125,13.875 4.375,14.875
3D body: height 0.3, standoff 0, extent 3.125,13.875 3.375,14.875
3D body: height 0.3, standoff 0, extent 3.625,13.875 3.875,14.875
3D body: height 0.3, standoff 0, extent 1.625,13.875 1.875,14.875
3D body: height 0.3, standoff 0, extent 1.125,13.875 1.375,14.875
3D body: height 0.3, standoff 0, extent 2.125,13.875 2.375,14.875
3D body: height 0.3, standoff 0, extent 2.625,13.875 2.875,14.875
3D body: height 0.3, standoff 0, extent -1.375,13.875 -1.125,14.875
3D body: height 0.3, standoff 0, extent -1.875,13.875 -1.625,14.875
3D body: height 0.3, standoff 0, extent -2.875,13.875 -2.625,14.875
3D body: height 0.3, standoff 0, extent -2.375,13.875 -2.125,14.875
3D body: height 0.3, standoff 0, extent -0.375,13.875 -0.125,14.875
3D body: height 0.3, standoff 0, extent -0.875,13.875 -0.625,14.875
3D body: height 0.3, standoff 0, extent 0.125,13.875 0.375,14.875
3D body: height 0.3, standoff 0, extent 0.625,13.875 0.875,14.875
3D body: height 0.3, standoff 0, extent 8.625,13.875 8.875,14.875
3D body: height 0.3, standoff 0, extent 8.125,13.875 8.375,14.875
3D body: height 0.3, standoff 0, extent 7.125,13.875 7.375,14.875
3D body: height 0.3, standoff 0, extent 7.625,13.875 7.875,14.875
3D body: height 0.3, standoff 0, extent 5.625,13.875 5.875,14.875
3D body: height 0.3, standoff 0, extent 5.125,13.875 5.375,14.875
3D body: height 0.3, standoff 0, extent 6.125,13.875 6.375,14.875
3D body: height 0.3, standoff 0, extent 6.625,13.875 6.875,14.875
3D body: height 0.3, standoff 0, extent 10.625,13.875 10.875,14.875
3D body: height 0.3, standoff 0, extent 10.125,13.875 10.375,14.875
3D body: height 0.3, standoff 0, extent 9.125,13.875 9.375,14.875
3D body: height 0.3, standoff 0, extent 9.625,13.875 9.875,14.875
3D body: height 0.3, standoff 0, extent 11.625,13.875 11.875,14.875
3D body: height 0.3, standoff 0, extent 11.125,13.875 11.375,14.875
3D body: height 0.3, standoff 0, extent 12.125,13.875 12.375,14.875
3D body: height 0.3, standoff 0, extent 12.625,13.875 12.875,14.875
3D body: height 0.3, standoff 0, extent -14.875,-11.375 -13.875,-11.125
3D body: height 0.3, standoff 0, extent -14.875,-11.875 -13.875,-11.625
3D body: height 0.3, standoff 0, extent -14.875,-12.875 -13.875,-12.625
3D body: height 0.3, standoff 0, extent -14.875,-12.375 -13.875,-12.125
3D body: height 0.3, standoff 0, extent -14.875,-3.375 -13.875,-3.125
3D body: height 0.3, standoff 0, extent -14.875,-3.875 -13.875,-3.625
3D body: height 0.3, standoff 0, extent -14.875,-4.875 -13.875,-4.625
3D body: height 0.3, standoff 0, extent -14.875,-4.375 -13.875,-4.125
3D body: height 0.3, standoff 0, extent -14.875,-6.375 -13.875,-6.125
3D body: height 0.3, standoff 0, extent -14.875,-6.875 -13.875,-6.625
3D body: height 0.3, standoff 0, extent -14.875,-5.875 -13.875,-5.625
3D body: height 0.3, standoff 0, extent -14.875,-5.375 -13.875,-5.125
3D body: height 0.3, standoff 0, extent -14.875,-9.375 -13.875,-9.125
3D body: height 0.3, standoff 0, extent -14.875,-9.875 -13.875,-9.625
3D body: height 0.3, standoff 0, extent -14.875,-10.875 -13.875,-10.625
3D body: height 0.3, standoff 0, extent -14.875,-10.375 -13.875,-10.125
3D body: height 0.3, standoff 0, extent -14.875,-8.375 -13.875,-8.125
3D body: height 0.3, standoff 0, extent -14.875,-8.875 -13.875,-8.625
3D body: height 0.3, standoff 0, extent -14.875,-7.875 -13.875,-7.625
3D body: height 0.3, standoff 0, extent -14.875,-7.375 -13.875,-7.125
3D body: height 0.3, standoff 0, extent -14.875,4.625 -13.875,4.875
3D body: height 0.3, standoff 0, extent -14.875,4.125 -13.875,4.375
3D body: height 0.3, standoff 0, extent -14.875,3.125 -13.875,3.375
3D body: height 0.3, standoff 0, extent -14.875,3.625 -13.875,3.875
3D body: height 0.3, standoff 0, extent -14.875,1.625 -13.875,1.875
3D body: height 0.3, standoff 0, extent -14.875,1.125 -13.875,1.375
3D body: height 0.3, standoff 0, extent -14.875,2.125 -13.875,2.375
3D body: height 0.3, standoff 0, extent -14.875,2.625 -13.875,2.875
3D body: height 0.3, standoff 0, extent -14.875,-1.375 -13.875,-1.125
3D body: height 0.3, standoff 0, extent -14.875,-1.875 -13.875,-1.625
3D body: height 0.3, standoff 0, extent -14.875,-2.875 -13.875,-2.625
3D body: height 0.3, standoff 0, extent -14.875,-2.375 -13.875,-2.125
3D body: height 0.3, standoff 0, extent -14.875,-0.375 -13.875,-0.125
3D body: height 0.3, standoff 0, extent -14.875,-0.875 -13.875,-0.625
3D body: height 0.3, standoff 0, extent -14.875,0.125 -13.875,0.375
3D body: height 0.3, standoff 0, extent -14.875,0.625 -13.875,0.875
3D body: height 0.3, standoff 0, extent -14.875,8.625 -13.875,8.875
3D body: height 0.3, standoff 0, extent -14.875,8.125 -13.875,8.375
3D body: height 0.3, standoff 0, extent -14.875,7.125 -13.875,7.375
3D body: height 0.3, standoff 0, extent -14.875,7.625 -13.875,7.875
3D body: height 0.3, standoff 0, extent -14.875,5.625 -13.875,5.875
3D body: height 0.3, standoff 0, extent -14.875,5.125 -13.875,5.375
3D body: height 0.3, standoff 0, extent -14.875,6.125 -13.875,6.375
3D body: height 0.3, standoff 0, extent -14.875,6.625 -13.875,6.875
3D body: height 0.3, standoff 0, extent -14.875,10.625 -13.875,10.875
3D body: height 0.3, standoff 0, extent -14.875,10.125 -13.875,10.375
3D body: height 0.3, standoff 0, extent -14.875,9.125 -13.875,9.375
3D body: height 0.3, standoff 0, extent -14.875,9.625 -13.875,9.875
3D body: height 0.3, standoff 0, extent -14.875,11.625 -13.875,11.875
3D body: height 0.3, standoff 0, extent -14.875,11.125 -13.875,11.375
3D body: height 0.3, standoff 0, extent -14.875,12.125 -13.875,12.375
3D body: height 0.3, standoff 0, extent -14.875,12.625 -13.875,12.875
3D body: height 1.62, standoff 0.5, extent -13.298,12.576 -12.7,13.175

## TQFP-32-0.8 [mm] "TQFP, 32-Leads, Body 7,00x7,00mm, Pitch 0,80mm, IPC High Density"
height 1.2
pads (32):
  oval 1.25x0.4 smd: 1(-4.2,2.8) 2(-4.2,2) 3(-4.2,1.2) 4(-4.2,0.4) 5(-4.2,-0.4) 6(-4.2,-1.2) 7(-4.2,-2) 8(-4.2,-2.8) 17(4.2,-2.8) 18(4.2,-2) 19(4.2,-1.2) 20(4.2,-0.4) 21(4.2,0.4) 22(4.2,1.2) 23(4.2,2) 24(4.2,2.8)
  oval 0.4x1.25 smd: 9(-2.8,-4.2) 10(-2,-4.2) 11(-1.2,-4.2) 12(-0.4,-4.2) 13(0.4,-4.2) 14(1.2,-4.2) 15(2,-4.2) 16(2.8,-4.2) 25(2.8,4.2) 26(2,4.2) 27(1.2,4.2) 28(0.4,4.2) 29(-0.4,4.2) 30(-1.2,4.2) 31(-2,4.2) 32(-2.8,4.2)
Top Overlay:
  circle w0.6: c-2.125,2.125 r0.3
  circle w0.25: c-4.1,3.525 r0.125
  lines w0.15: -3.1,-3.1 3.1,-3.1 3.1,3.1 -3.1,3.1 -3.1,-3.1
ASM Top:
  circle w0.1: c-2.6,2.6 r0.5
  lines w0.1: -3.5,-3.5 3.5,-3.5 3.5,3.5 -3.5,3.5 -3.5,-3.5
  text ".Designator" at -2.05,-0.7 h0.75
PNP Top:
  lines w0.05: -5,-5 5,-5 5,5 -5,5 -5,-5
  lines w0.1: -0.5,0 0.5,0 ; 0,-0.5 0,0.5
3D body "TQFP80P900X900X120-32L.step": height 1.2, standoff 0, extent -4.5,-4.5 4.5,4.5